# EAGLE library part BMP280 (library Deegou_IC)
Digital Pressure Sensor Source: Datasheet <https://ae-bst.resource.bosch.com/media/products/dokumente/bmp280/BST-BMP280-DS001-11.pdf>
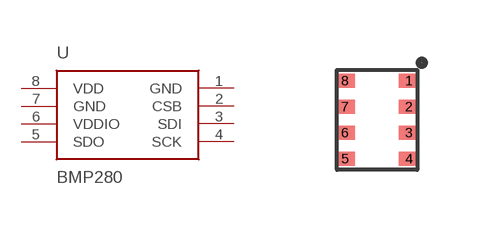
[diagram p138: symbol with the pads of 8-PIN-METAL-LID-LGA; footprint 8-PIN-METAL-LID-LGA]

Designator prefix U

## BMP280 (ARROW_PART_NUMBER: bmp280; DESCRIPTION: Digital Pressure Sensor; HEIGHT: mm; MANUFACTURER_NAME: Bosch Sensortec; MANUFACTURER_PART_NUMBER: bmp280)  [8-PIN-METAL-LID-LGA]
1  GND  pwr
2  CSB  in
3  SDI
4  SCK
5  SDO
6  VDDIO  pwr
7  GND  pwr
8  VDD  pwr

## Footprint 8-PIN-METAL-LID-LGA (pad centres in mm)
8-pin metal-lid LGA
smd 0.5 x 0.35: 1 0.8,0.975; 2 0.8,0.325; 3 0.8,-0.325; 4 0.8,-0.975; 5 -0.8,-0.975; 6 -0.8,-0.325; 7 -0.8,0.325; 8 -0.8,0.975